# EAGLE library part JS202011 (library switch-ck)
C&K Components JS Series Sub-Miniature DPDT Slide Switches
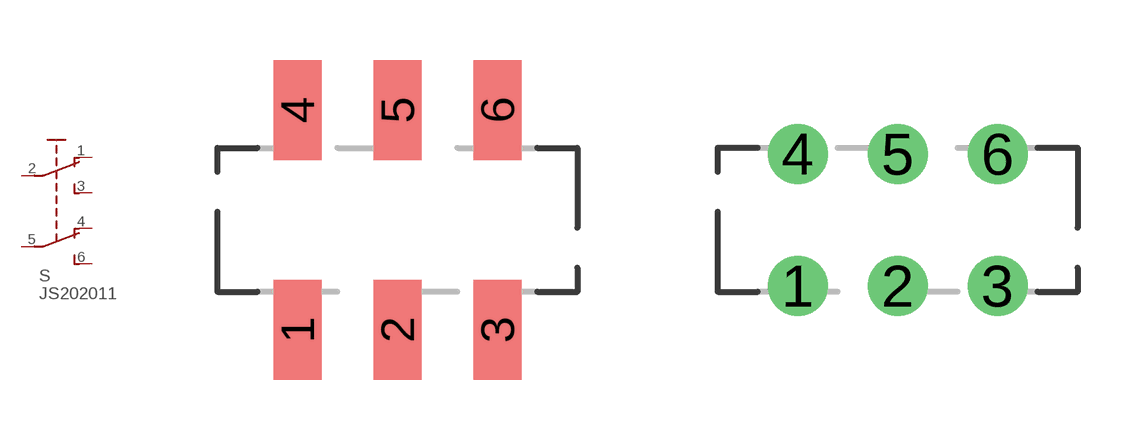
[diagram p0: symbol with the pads of JS202011SCQN; footprints JS202011SCQN, JS202011CQN]

Designator prefix S

## JS202011SCQN  [JS202011SCQN]
1  A1  pas
2  COM1  pas
3  B1  pas
4  A2  pas
5  COM2  pas
6  B2  pas

## JS202011CQN  [JS202011CQN]
Pads as for JS202011SCQN

## JS202011AQN  [JS202011AQN]
Pads as for JS202011SCQN

## Footprint JS202011SCQN (pad centres in mm)
Surface Mount
smd 1.2 x 2.5: 1 -2.5,-2.75; 2 0,-2.75; 3 2.5,-2.75; 4 -2.5,2.75; 5 0,2.75; 6 2.5,2.75

## Footprint JS202011CQN (pad centres in mm)
PC Through-Hole
drill 0.9 pad 1.5: 1 -2.5,-1.65; 2 0,-1.65; 3 2.5,-1.65; 4 -2.5,1.65; 5 0,1.65; 6 2.5,1.65

## Footprint JS202011AQN (pad centres in mm)
Right Angle, PC Through-Hole
drill 0.9 pad 1.5: 1 -2.5,-1.65; 2 0,-1.65; 3 2.5,-1.65; 4 -2.5,1.65; 5 0,1.65; 6 2.5,1.65